# Altium footprint library Steering_Wheel_Comms_PCB.PcbLib: 6 footprints
Each footprint in its own frame and in the unit in brackets; x right, y up, seen from the top. Pads: shape width x height; smd on the part's side, far side on the other; paste and mask are expansions set on the pad; w line width, h text height; cw(c..) or ccw(c..) is an arc to the next point about the centre after c.
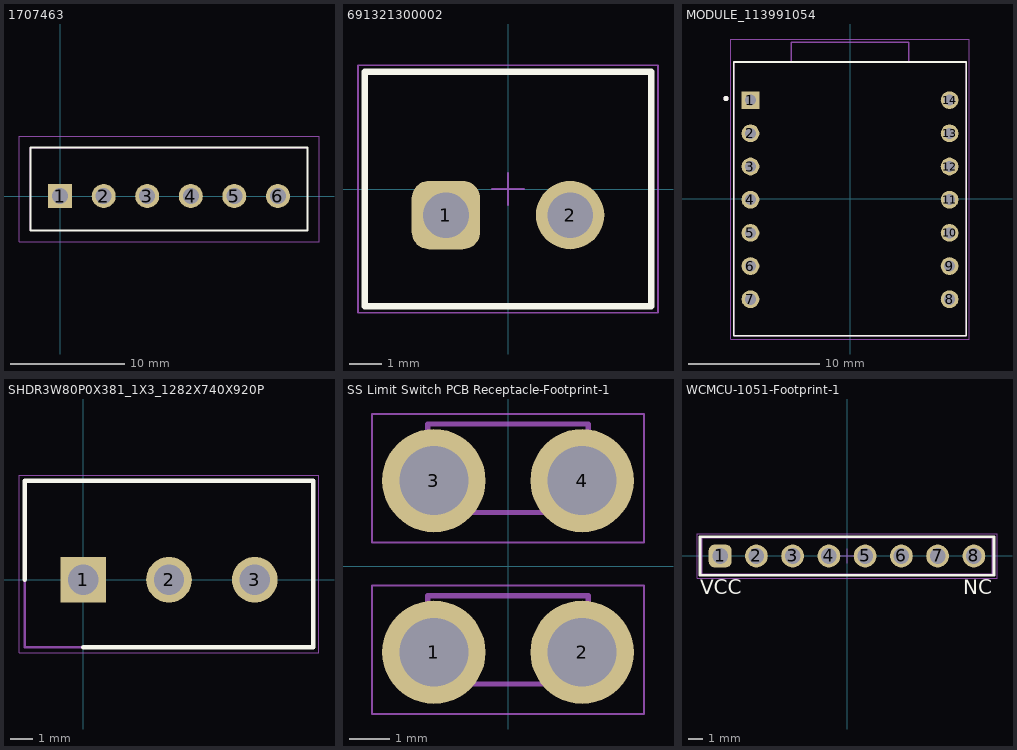
[diagram p0: the footprints below, top view; thin cyan lines are the x and y axes]

## 1707463 [mm]
pads (6):
  rect 2.1x2.1 hole 1.4: 1(0,0)
  round 2.1 hole 1.4: 2(3.81,0) 3(7.62,0) 4(11.43,0) 5(15.24,0) 6(19.05,0)
Top Overlay:
  lines w0.2: -2.6,-3 -2.6,4.25 21.65,4.25 21.65,-3 -2.6,-3
Mechanical 13:
  lines w0.1: -2.6,-3 -2.6,4.25 21.65,4.25 21.65,-3 -2.6,-3
Mechanical 15:
  lines w0.1: -3.6,-4 -3.6,5.25 22.65,5.25 22.65,-4 -3.6,-4
3D body "1707463.stp": height 9.73, standoff -2.07, extent -2.6,-2.96 21.65,4.29

## 691321300002 [mm] "Vertical PCB Header, pitch 3.81mm, 02p"
height 9.2
pads (2):
  rrect50% 2.1x2.1 hole 1.4: 1(-1.905,-0.8)
  round 2.1 hole 1.4: 2(1.905,-0.8)
Top Overlay:
  lines w0.2: -4.405,-3.6 -4.405,3.6 4.405,3.6 4.405,-3.6 -4.405,-3.6
Top 3D Body:
  lines w0.1: -4.405,-3.6 -4.405,3.6 4.405,3.6 4.405,-3.6 -4.405,-3.6
Top Courtyard:
  lines w0.05: -4.605,-3.8 4.605,-3.8 4.605,3.8 -4.605,3.8 -4.605,-3.8
Top Designator:
  text ".Designator" at -7.498,-0.5 h1.5
Top Component Outline:
  lines w0.1: -4.405,-3.6 4.405,-3.6 4.405,3.6 -4.405,3.6 -4.405,-3.6
Top Component Center:
  lines w0.05: -0.5,0 0.5,0 ; 0,-0.5 0,0.5
3D body "691321300002.stp": height 9.25, standoff -3.45, extent -4.405,-3.6 4.405,3.599

## MODULE_113991054 [mm]
pads (14):
  rect 1.358x1.358 hole 0.85: 1(-7.62,7.556)
  round 1.358 hole 0.85: 2(-7.62,5.016) 3(-7.62,2.476) 4(-7.62,-0.064) 5(-7.62,-2.603) 6(-7.62,-5.143) 7(-7.62,-7.683) 8(7.62,-7.683) 9(7.62,-5.143) 10(7.62,-2.603) 11(7.62,-0.064) 12(7.62,2.476) 13(7.62,5.016) 14(7.62,7.556)
Top Overlay:
  circle w0.2: c-9.5,7.683 r0.1
  lines w0.127: -8.89,-10.477 -8.89,10.477 8.89,10.477 8.89,-10.477 -8.89,-10.477
Mechanical 13:
  circle w0.2: c-9.5,7.683 r0.1
  lines w0.127: -4.5,10.477 -8.89,10.477 -8.89,-10.477 8.89,-10.477 8.89,10.477 4.5,10.477 ; -4.5,10.477 4.5,10.477 ; -4.5,10.477 -4.5,11.987 4.5,11.987 4.5,10.477
Mechanical 15:
  lines w0.05: -9.14,-10.727 -9.14,12.237 9.14,12.237 9.14,-10.727 -9.14,-10.727

## SHDR3W80P0X381_1X3_1282X740X920P [mm]
pads (3):
  rect 2.025x2.025 hole 1.35: 1(0,0)
  round 2.025 hole 1.35: 2(3.81,0) 3(7.62,0)
Top Overlay:
  lines w0.2: -2.6,0 -2.6,4.4 10.22,4.4 10.22,-3 0,-3
Mechanical 13:
  lines w0.1: -2.6,-3 -2.6,4.4 10.22,4.4 10.22,-3 -2.6,-3
Mechanical 15:
  lines w0.05: -2.85,-3.25 -2.85,4.65 10.47,4.65 10.47,-3.25 -2.85,-3.25
3D body "5444657.stp": height 9.2, standoff -3.4, extent -2.6,-3.7 10.22,3.7

## SS Limit Switch PCB Receptacle-Footprint-1 [mm]
pads (4):
  round 2.55 hole 1.7: 1(-1.83,-2.118) 2(1.83,-2.118) 3(-1.83,2.118) 4(1.83,2.118)
Mechanical 13:
  lines w0.127: -1.98,-2.903 -1.98,-0.723 1.98,-0.723 1.98,-2.903 -1.98,-2.903 ; -1.98,1.333 1.98,1.333 1.98,3.513 -1.98,3.513 -1.98,1.333
Mechanical 15:
  lines w0.05: -3.355,-3.643 -3.355,-0.473 3.355,-0.473 3.355,-3.643 -3.355,-3.643 ; -3.355,0.593 3.355,0.593 3.355,3.763 -3.355,3.763 -3.355,0.593
3D body "step_temp.STEP": height 8.03, standoff -3.15, extent -1.981,1.33 1.981,3.515
3D body "step_temp.STEP": height 8.03, standoff -3.15, extent -1.981,-2.905 1.981,-0.721

## WCMCU-1051-Footprint-1 [mm] "Pin Header, pitch 2.54 mm, THT, Vertical, single row, 8p"
height 8.54
pads (8):
  rrect50% 1.6x1.6 hole 1.1: 1(-8.89,0)
  round 1.6 hole 1.1: 2(-6.35,0) 3(-3.81,0) 4(-1.27,0) 5(1.27,0) 6(3.81,0) 7(6.35,0) 8(8.89,0)
Top Overlay:
  lines w0.2: -10.31,-1.345 -10.31,1.345 10.31,1.345 10.31,-1.345 -10.31,-1.345
  text "NC" at 8.128,-2.667 h1.02
  text "VCC" at -10.287,-2.667 h1.02
Top 3D Body:
  lines w0.1: -10.16,-1.27 10.16,-1.27 10.16,1.27 -10.16,1.27 -10.16,-1.27
Top Courtyard:
  lines w0.05: -0.5,0 0.5,0 ; 0,-0.5 0,0.5 ; -10.51,-1.545 10.51,-1.545 10.51,1.545 -10.51,1.545 -10.51,-1.545
Top Component Outline:
  lines w0.1: -10.16,-1.27 10.16,-1.27 10.16,1.27 -10.16,1.27 -10.16,-1.27
3D body "61300811121.stp": height 8.57, standoff -2.97, extent -10.16,-1.27 10.16,1.27
3D body "WCMCU-1051.STEP": height 4.29, standoff 2.64, extent -10.152,-1.278 10.168,13.2